# Altium footprint library OLED_V3.1.PcbLib: 7 footprints
Each footprint in its own frame and in the unit in brackets; x right, y up, seen from the top. Pads: shape width x height; smd on the part's side, far side on the other; paste and mask are expansions set on the pad; w line width, h text height; cw(c..) or ccw(c..) is an arc to the next point about the centre after c.
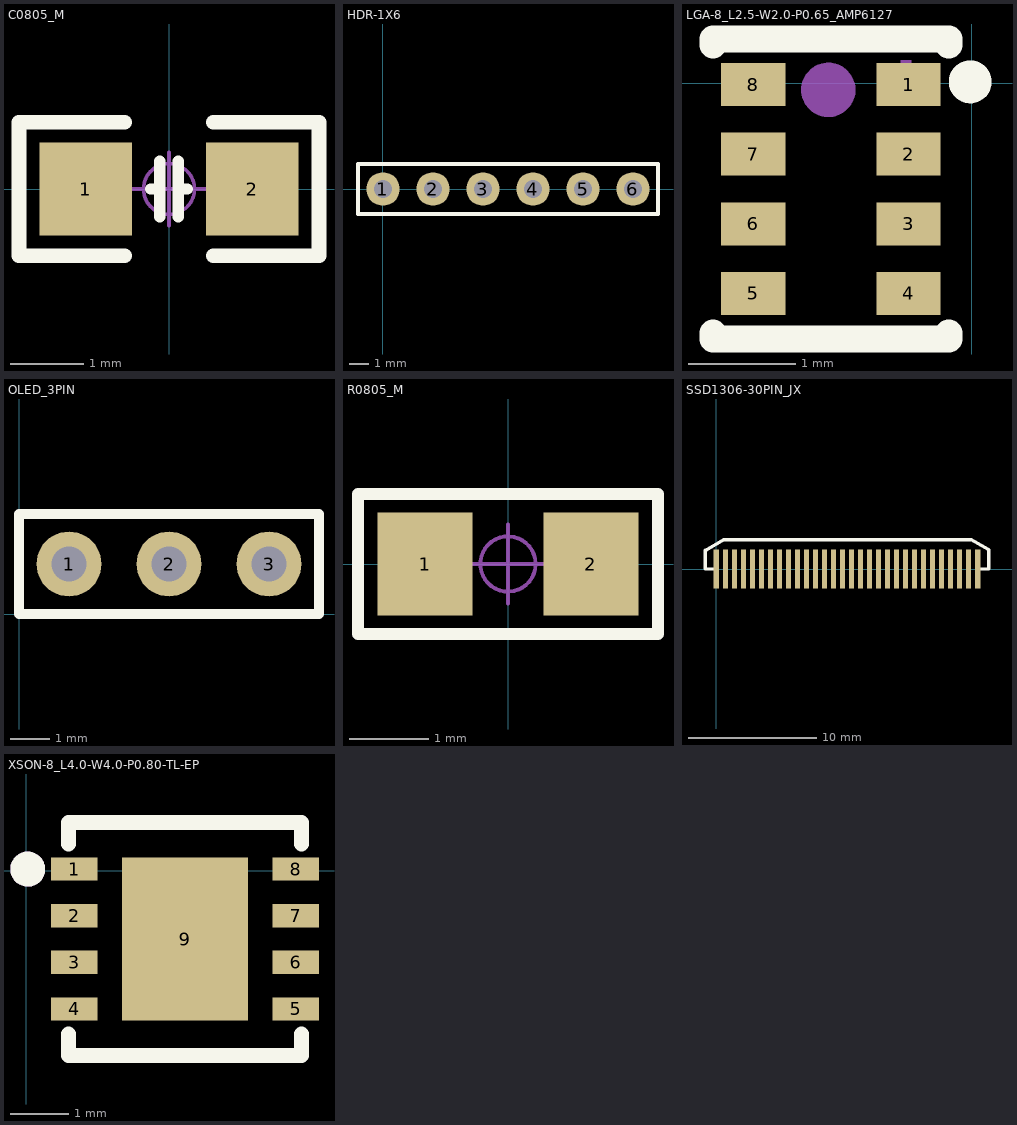
[diagram p0: the footprints below, top view; thin cyan lines are the x and y axes]

## C0805_M [mil] "贴片MLCC电容"
height 19.68
pads (2):
  rect 50x50 smd: 1(-45,0) 2(45,0)
Top Overlay:
  lines w6: -10,0 -5,0 ; -5,-15 -5,15 ; 5,-15 5,15 ; 5,0 10,0
  lines w8: -24,-36 -81,-36 -81,36 -24,36 ; 24,-36 81,-36 81,36 24,36
Mechanical 15:
  circle w1.97: c0,0 r13.78
  lines w1.97: -19.68,0 19.68,0 ; 0,-19.68 0,19.68
3D body "C0805H13-2S.stp": height 51.18, standoff -0.04, extent -39.36,-25.58 39.38,25.6

## HDR-1X6 [mm] "排针，6脚"
pads (6):
  round 1.7 hole 0.9: 1(0,0) 2(2.54,0) 3(5.08,0) 4(7.62,0) 5(10.16,0) 6(12.7,0)
Top Overlay:
  lines w0.2: -1.27,-1.27 -1.27,1.27 13.97,1.27 13.97,-1.27 -1.27,-1.27
3D body "HDR2.54-1P.STEP": height 8.5, standoff -3, extent 11.43,-1.27 13.97,1.27
3D body "HDR2.54-1P.STEP": height 8.5, standoff -3, extent 8.89,-1.27 11.43,1.27
3D body "HDR2.54-1P.STEP": height 8.5, standoff -3, extent 6.35,-1.27 8.89,1.27
3D body "HDR2.54-1P.STEP": height 8.5, standoff -3, extent 3.81,-1.27 6.35,1.27
3D body "HDR2.54-1P.STEP": height 8.5, standoff -3, extent 1.27,-1.27 3.81,1.27
3D body "HDR2.54-1P.STEP": height 8.5, standoff -3, extent -1.27,-1.27 1.27,1.27

## LGA-8_L2.5-W2.0-P0.65_AMP6127 [mm]
pads (8):
  rect 0.6x0.4 smd paste+0 mask+0.051: 1(-0.588,-0.013) 2(-0.588,-0.663) 3(-0.588,-1.313) 4(-0.588,-1.963) 5(-2.038,-1.963) 6(-2.038,-1.313) 7(-2.038,-0.663) 8(-2.038,-0.013)
Top Overlay:
  circle w0.2: c-0.013,0.012 r0.1
  lines w0.254: -2.413,-2.332 -2.413,-2.388 -0.213,-2.388 -0.213,-2.332 ; -2.413,0.356 -2.413,0.412 -0.213,0.412 -0.213,0.356
Mechanical 15:
  circle w0.254: c-1.338,-0.063 r0.127
  region: -0.663,0.212 -0.663,-0.188 -0.563,-0.188 -0.563,0.212

## OLED_3PIN [mil]
pads (3):
  round 65 hole 35: 1(50,50) 2(150,50) 3(250,50)
Top Overlay:
  lines w10: 0,0 0,100 150,100 300,100 300,0 0,0

## R0805_M [mm] "1/8W贴片电阻"
pads (2):
  rect 1.2x1.3 smd: 1(-1.05,0) 2(1.05,0)
Top Overlay:
  lines w0.152: -1.9,-0.889 1.9,-0.889 1.9,0.889 -1.9,0.889 -1.9,-0.889
Mechanical 15:
  circle w0.05: c0,0 r0.35
  lines w0.05: -0.5,0 0.5,0 ; 0,-0.5 0,0.5
3D body "R0805-2.stp": height 0.5, standoff 0, extent -1,-0.625 1,0.625

## SSD1306-30PIN_JX [mm]
pads (30):
  rect 0.4x3 smd: 1(-0.002,0.004) 2(0.699,0.004) 3(1.398,0.004) 4(2.099,0.004) 5(2.798,0.004) 6(3.498,0.004) 7(4.199,0.004) 8(4.898,0.004) 9(5.598,0.004) 10(6.299,0.004) 11(6.998,0.004) 12(7.698,0.004) 13(8.399,0.004) 14(9.098,0.004) 15(9.798,0.004) 16(10.499,0.004) 17(11.198,0.004) 18(11.898,0.004) 19(12.599,0.004) 20(13.298,0.004) 21(13.998,0.004) 22(14.698,0.004) 23(15.398,0.004) 24(16.098,0.004) 25(16.799,0.004) 26(17.498,0.004) 27(18.198,0.004) 28(18.899,0.004) 29(19.598,0.004) 30(20.298,0.004)
Top Overlay:
  lines w0.254: -0.129,0.004 -0.851,0.004 -0.851,1.453 0.591,2.286 19.79,2.286 21.149,1.528 21.149,0.004 20.518,0.004

## XSON-8_L4.0-W4.0-P0.80-TL-EP [mm]
pads (9):
  rect 0.8x0.4 smd paste+0 mask+0.05: 1(0.823,0.025) 2(0.823,-0.775) 3(0.823,-1.575) 4(0.823,-2.375) 5(4.623,-2.375) 6(4.623,-1.575) 7(4.623,-0.775) 8(4.623,0.025)
  rect 2.159x2.794 smd paste+0 mask+0.05: 9(2.723,-1.175)
Top Overlay:
  circle w0.3: c0.023,0.025 r0.15
  lines w0.254: 0.723,-2.806 0.723,-3.175 4.723,-3.175 4.723,-2.806 ; 0.723,0.456 0.723,0.825 4.723,0.825 4.723,0.456
Mechanical 15:
  circle w0.3: c0.023,0.025 r0.15